# Altium schematic symbol library TEST_POINT.SchLib: 1 symbol
Pins are listed as number, name and electrical type; pins without a type are passive.

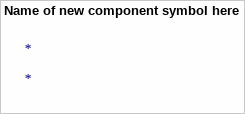
[diagram p0: symbol Name of new component symbol here]

## Name of new component symbol here
designator *